# Altium footprint library PcbLib1.PcbLib: 6 footprints
Each footprint in its own frame and in the unit in brackets; x right, y up, seen from the top. Pads: shape width x height; smd on the part's side, far side on the other; paste and mask are expansions set on the pad; w line width, h text height; cw(c..) or ccw(c..) is an arc to the next point about the centre after c.
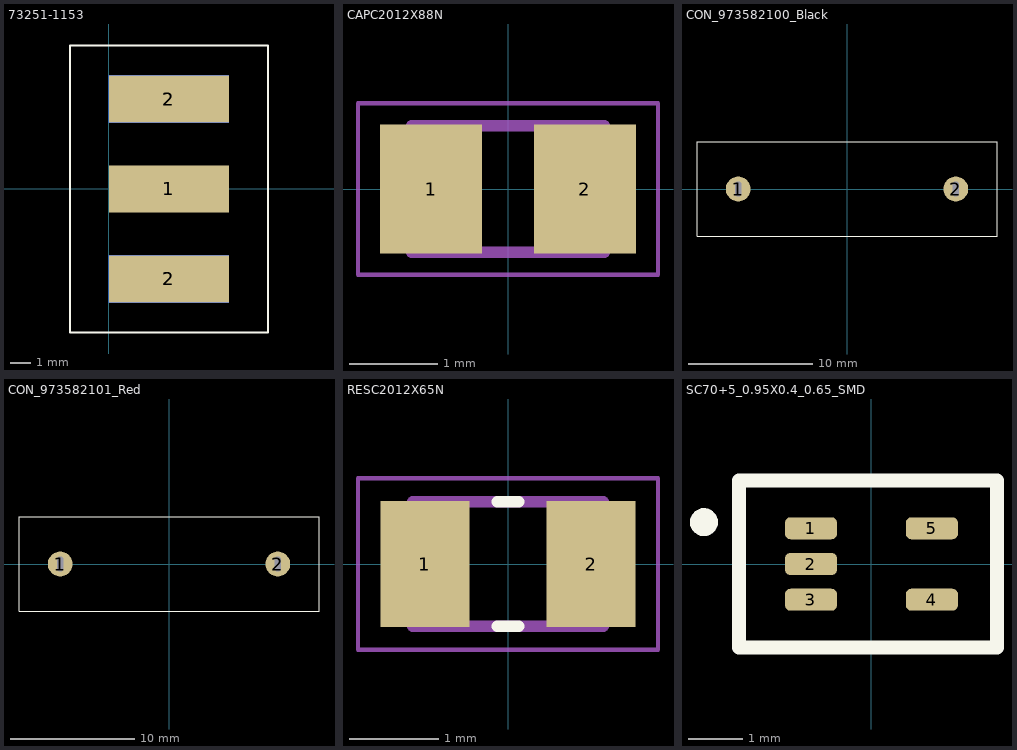
[diagram p0: the footprints below, top view; thin cyan lines are the x and y axes]

## 73251-1153 [mm]
pads (5):
  rect 5.84x2.29 smd: 1(2.92,0) 2(2.92,-4.38) 2(2.92,4.38)
  rect 5.84x2.29 smd far side: 2(2.92,-4.38) 2(2.92,4.38)
Top Overlay:
  lines w0.1: -1.905,-6.985 7.747,-6.985 7.747,6.985 -1.905,6.985 -1.905,-6.985
3D body "732511153.stp": height 3.96, standoff -3.96, extent -8.661,-4.699 5.613,4.826

## CAPC2012X88N [mm]
pads (2):
  rect 1.16x1.47 smd: 1(-0.875,0) 2(0.875,0)
Mechanical 13:
  lines w0.127: -1.1,-0.72 1.1,-0.72 1.1,0.72 -1.1,0.72 -1.1,-0.72
Mechanical 15:
  lines w0.05: -1.708,-0.975 1.708,-0.975 1.708,0.975 -1.708,0.975 -1.708,-0.975
3D body "step_temp.STEP": height 1.4, standoff 0, extent -1.016,-0.635 1.016,0.635

## CON_973582100_Black [mm]
pads (2):
  round 2 hole 0.5 slot 1.2 at 90 deg: 1(-8.75,0) 2(8.75,0)
Top Overlay:
  lines w0.1: -12.065,-3.81 12.065,-3.81 12.065,3.81 -12.065,3.81 -12.065,-3.81
3D body "User Library-Multicomp_24_243_2.STEP": height 16, standoff -3, extent -12.381,-5.461 11.619,5.239

## CON_973582101_Red [mm]
pads (2):
  round 2 hole 0.5 slot 1.2 at 90 deg: 1(-8.75,0) 2(8.75,0)
Top Overlay:
  lines w0.1: -12.065,-3.81 12.065,-3.81 12.065,3.81 -12.065,3.81 -12.065,-3.81
3D body "User Library-Multicomp_24_243_1.STEP": height 16, standoff -3, extent -12.254,-5.08 11.746,5.62

## RESC2012X65N [mm]
pads (2):
  rect 1x1.42 smd: 1(-0.935,0) 2(0.935,0)
Top Overlay:
  lines w0.127: -0.12,-0.7 0.12,-0.7 ; -0.12,0.7 0.12,0.7
Mechanical 13:
  lines w0.127: -1.07,-0.7 1.07,-0.7 1.07,0.7 -1.07,0.7 -1.07,-0.7
Mechanical 15:
  lines w0.05: -1.685,-0.962 1.685,-0.962 1.685,0.962 -1.685,0.962 -1.685,-0.962
3D body "step_temp.STEP": height 0.65, standoff 0, extent -1,-0.625 1,0.625

## SC70+5_0.95X0.4_0.65_SMD [mm]
pads (5):
  rrect50% 0.95x0.4 smd: 1(-1.1,0.65) 2(-1.1,0) 3(-1.1,-0.65) 4(1.1,-0.65) 5(1.1,0.65)
Top Overlay:
  circle w0.254: c-3.048,0.762 r0.127
  lines w0.254: -2.413,-1.524 -2.413,1.524 2.286,1.524 2.286,-1.524 -2.413,-1.524
3D body "DCK0005A.stp": height 1, standoff 0, extent -1.05,-1 1.05,1